# Altium schematic symbol library 2014-09-02_05-44-38.SchLib: 12 symbols
Pins are listed as number, name and electrical type; pins without a type are passive.

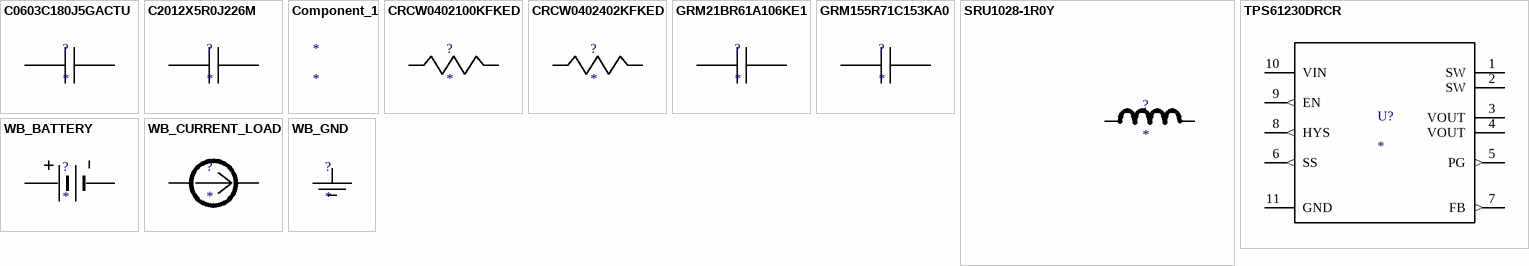
[diagram p0: symbols C0603C180J5GACTU to WB_GND]

## C0603C180J5GACTU
designator ?
Imported; Manufacturer_Part_Number: C0603C180J5GACTU; Vendor: Kemet; Manufacturer_Name: Kemet; RefDes: RefDes; TYPE: TYPE; Value: Value
footprint 0603
pins: 1, 2

## C2012X5R0J226M
designator ?
Imported; Manufacturer_Part_Number: C2012X5R0J226M; Vendor: TDK; Manufacturer_Name: TDK; RefDes: RefDes; TYPE: TYPE; Value: Value
footprint 0805
pins: 1, 2

## Component_1
designator *

## CRCW0402100KFKED
designator ?
Imported; Manufacturer_Part_Number: CRCW0402100KFKED; Vendor: Vishay-Dale; Manufacturer_Name: Vishay-Dale; RefDes: RefDes; TYPE: TYPE; Value: Value
footprint 0402
pins: 1, 2

## CRCW0402402KFKED
designator ?
Imported; Manufacturer_Part_Number: CRCW0402402KFKED; Vendor: Vishay-Dale; Manufacturer_Name: Vishay-Dale; RefDes: RefDes; TYPE: TYPE; Value: Value
footprint 0402
pins: 1, 2

## GRM21BR61A106KE1
designator ?
Imported; Manufacturer_Part_Number: GRM21BR61A106KE19L; Vendor: MuRata; Manufacturer_Name: MuRata; RefDes: RefDes; TYPE: TYPE; Value: Value
footprint 0805
pins: 1, 2

## GRM155R71C153KA0
designator ?
Imported; Manufacturer_Part_Number: GRM155R71C153KA01D; Vendor: MuRata; Manufacturer_Name: MuRata; RefDes: RefDes; TYPE: TYPE; Value: Value
footprint 0402
pins: 1, 2

## SRU1028-1R0Y
designator ?
Imported; Manufacturer_Part_Number: SRU1028-1R0Y; Vendor: Bourns; Manufacturer_Name: Bourns; RefDes: RefDes; TYPE: TYPE; Value: Value
footprint SRU1028
pins: 1, 2

## TPS61230DRCR
designator U?
Imported; PartNumber: TPS61230DRC; Alternate Manufacturer: None; Manufacturer: Texas Instruments; Manufacturer_Part_Number: TPS61230DRCR; CurrentTime: Not shown in title block; DocumentNumber: 1; SymbolCreator: a0411947; CompType: IC; U/M: EA; Designator: U?; PIN_COUNT: 11; CurrentDate: Not shown in title block; Time: Not shown in title block; Date: Not shown in title block; DocumentFullPathAndName: Not shown in title block; DocumentName: Not shown in title block; ModifiedDate: Not shown in title block; ApprovedBy: Not shown in title block; CheckedBy: Not shown in title block; Author: Not shown in title block; CompanyName: Not shown in title block; Engineer: Not shown in title block; Organization: Not shown in title block; Address1: Not shown in title block; Address2: Not shown in title block; Address3: Not shown in title block; Address4: Not shown in title block; Revision: Use project parameter SCH_Rev; SheetNumber: 1; SheetTotal: 1; ImagePath: Not shown in title block; Rule: *; ProjectName: *; SymbolVersion: 2014-03-05; PackageReference: DRC0010G; MountType: SMT; ComponentLink1Description: Datasheet Link; ComponentLink1URL: https://sps06.itg.ti.com/sites/KMS/crossdivteams/altium/docs/ComponentDatasheets/TPS61230_SLVSAQ2_Jan 2014_preliminary.pdf; RoHS: Y; Publisher: Texas Instruments; LatestRevisionDate: 2014-03-10; Manufacturer_Name: Texas Instruments; Refdes: Refdes; Type: Type; Value: Value
footprint DRC0010G
pins: 1 SW (power), 2 SW (power), 3 VOUT (power), 4 VOUT (power), 5 PG (out), 6 SS (out), 7 FB (out), 8 HYS (out), 9 EN (out), 10 VIN (power), 11 GND (power)

## WB_BATTERY
designator ?
Imported; Manufacturer_Part_Number: WB_BATTERY; PowerPortType: POWER_GROUND; Value: Value; Manufacturer_Name: WB_BATTERY; RefDes: RefDes; TYPE: TYPE
pins: 1 +, 2 -

## WB_CURRENT_LOAD
designator ?
Imported; Manufacturer_Part_Number: WB_CURRENT_LOAD; PowerPortType: POWER_GROUND; Value: Value; Manufacturer_Name: WB_CURRENT_LOAD; RefDes: RefDes; TYPE: TYPE
pins: 1 +, 2 -

## WB_GND
designator ?
Imported; Manufacturer_Part_Number: WB_GND; PowerPortType: POWER_GROUND; Value: Value; Manufacturer_Name: WB_GND; RefDes: RefDes; TYPE: TYPE
pins: 1